# Altium schematic symbol library EEAGA1A680.SchLib: 1 symbol
Pins are listed as number, name and electrical type; pins without a type are passive.

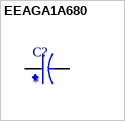
[diagram p0: symbol EEAGA1A680]

## EEAGA1A680
designator C?
Aluminium Electrolytic Capacitor, Ga Series, 68 - F, - 20%, 10 V, 6.3 Mm, Radial Leaded; MF: Panasonic; MP: EEAGA1A680; Value: *; Price: None; Package: RADIAL-2 Panasonic; Availability: In Stock; Check_prices: https://www.snapeda.com/parts/EEAGA1A680/Panasonic/view-part/2776310/?ref=eda; SnapEDA_Link: https://www.snapeda.com/parts/EEAGA1A680/Panasonic/view-part/2776310/?ref=snap
footprint CAPPRD250W45D630H700
pins: N, P